# Altium footprint library Transistors_imp.PCBLIB: 16 footprints
Each footprint in its own frame and in the unit in brackets; x right, y up, seen from the top. Pads: shape width x height; smd on the part's side, far side on the other; paste and mask are expansions set on the pad; w line width, h text height; cw(c..) or ccw(c..) is an arc to the next point about the centre after c.
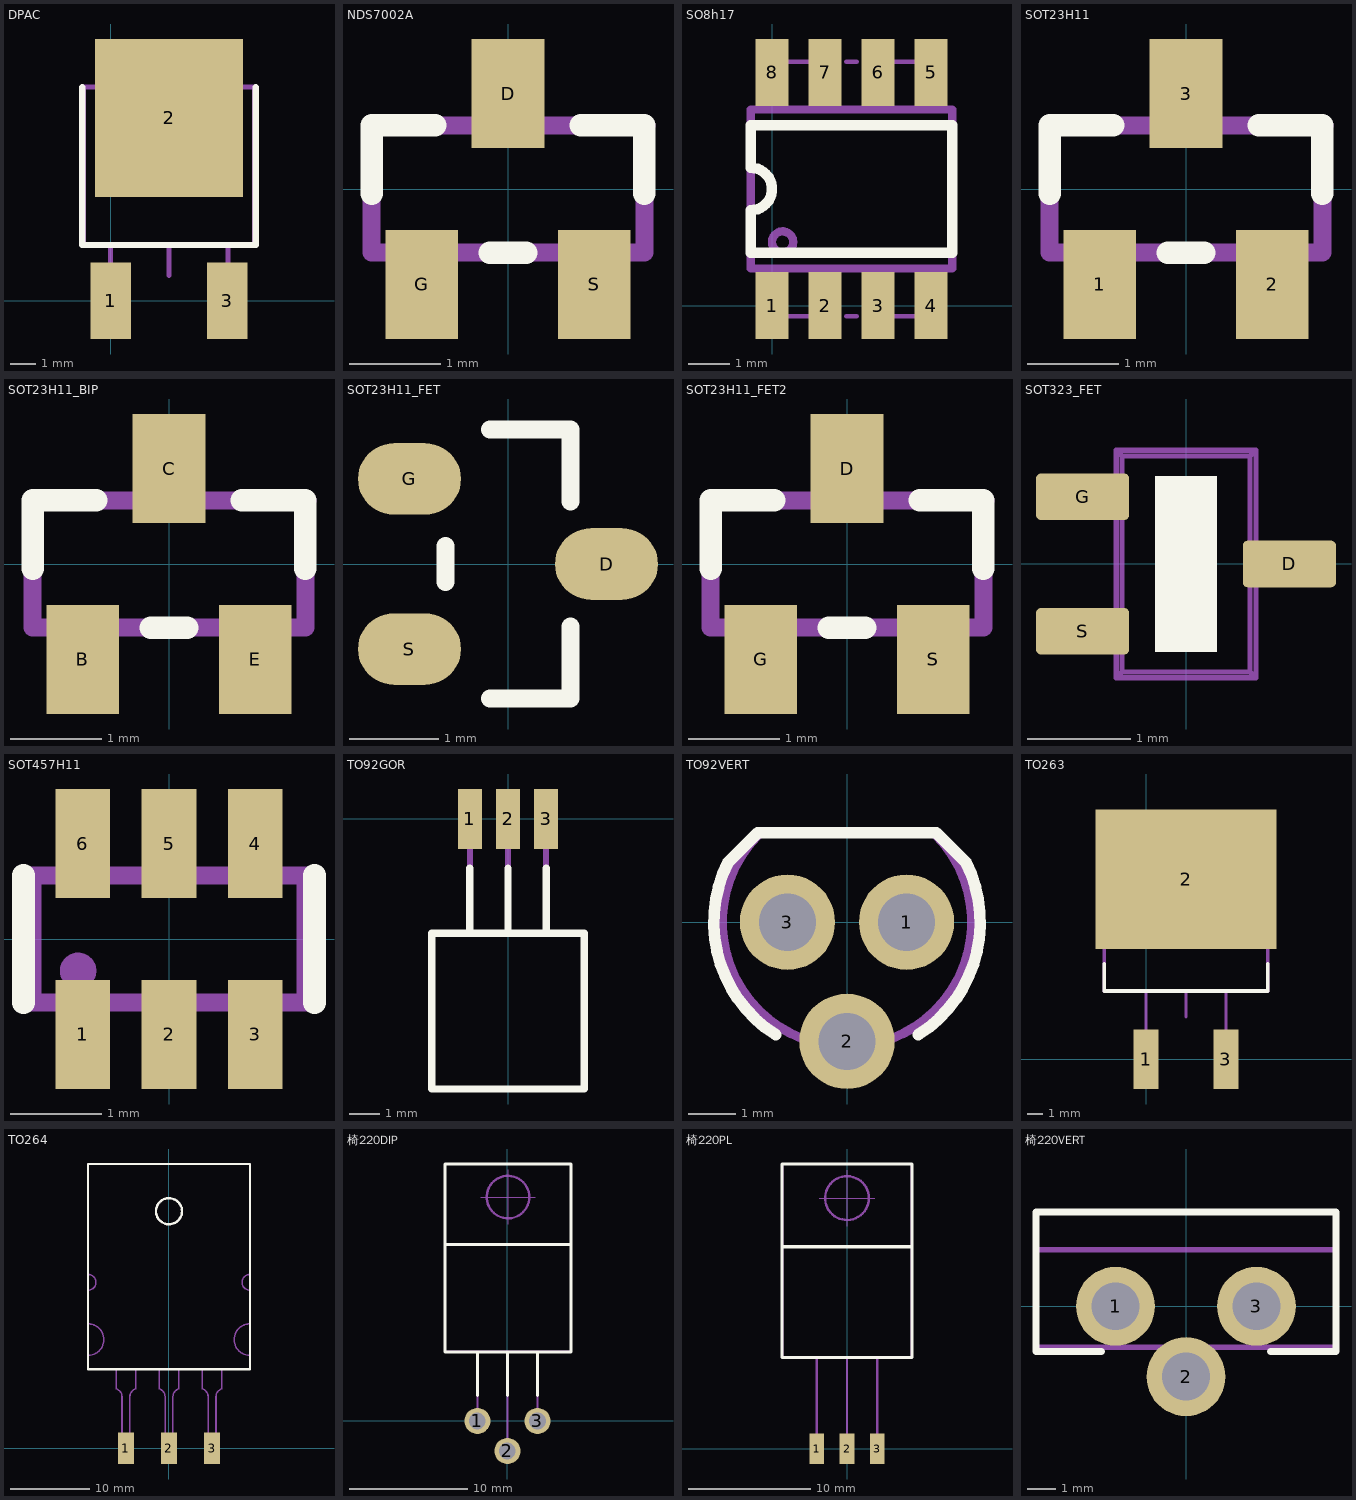
[diagram p0: the footprints below, top view; thin cyan lines are the x and y axes]

## DPAC [mm]
height 2.38
pads (3):
  rect 1.6x3 smd: 1(0,0) 3(4.58,0)
  rect 5.8x6.2 smd: 2(2.29,7.18)
Top Overlay:
  lines w0.25: -1.11,8.39 -1.11,2.19 5.69,2.19 5.69,8.39
Mechanical 1:
  lines w0.2: -0.41,8.4 -0.41,9.69 4.99,9.69 4.99,8.4 ; 0,-1 0,2.2 4.6,2.2 4.6,-1 ; 2.29,0.99 2.29,2.2 ; -1.06,2.2 -1.06,8.4 5.64,8.4 5.64,2.2 -1.06,2.2
  text "3" at 4.29,2.69 h1.5
  text "1" at -0.21,2.69 h1.5
  text "2" at 1.99,2.69 h1.5
  text ".Designator" at 0.749,5.949 h1.5
3D body "DPAC.stp": height 2.38, standoff 0, extent -1.1,-0.7 5.63,9.68

## NDS7002A [mm]
height 1.1
pads (3):
  rect 0.8x1.2 smd: D(0,1.05) G(-0.95,-1.05) S(0.95,-1.05)
Top Overlay:
  lines w0.25: -1.5,-0.05 -1.5,0.7 -0.8,0.7 ; -0.2,-0.7 0.2,-0.7 ; 0.8,0.7 1.5,0.7 1.5,-0.05
Mechanical 1:
  lines w0.2: -0.95,-1.3 -0.95,-0.7 ; 0.02,0.7 0.02,1.3 ; 0.95,-1.3 0.95,-0.7 ; 1.5,0.7 1.5,-0.7 -1.5,-0.7 -1.5,0.7 1.52,0.7
  text "S" at 1.75,-1.75 h1.5
  text "G" at -2.5,-1.75 h1.5
  text "D" at -1.5,1 h1.5
  text ".Designator" at -0.448,2.278 h1.5
3D body "SOT23h11.stp": height 1.1, standoff 0, extent -1.48,-1.25 1.52,1.25

## SO8h17 [mm]
height 1.7
pads (8):
  rect 0.8x1.6 smd: 1(0,0) 2(1.27,0) 3(2.54,0) 4(3.81,0) 5(3.81,5.588) 6(2.54,5.588) 7(1.27,5.588) 8(0,5.588)
Top Overlay:
  lines w0.25: -0.508,1.27 -0.508,2.286 ccw(c-0.508,2.794) -0.508,3.302 -0.508,4.318 4.318,4.318 4.318,1.27 -0.508,1.27
Mechanical 1:
  circle w0.2: c0.254,1.524 r0.254
  lines w0.1: 0,-0.254 1.27,-0.254 ; 0,5.842 1.27,5.842 ; 1.778,-0.254 2.032,-0.254 ; 1.778,5.842 2.032,5.842 ; 2.54,-0.254 3.81,-0.254 ; 2.54,5.842 3.81,5.842
  lines w0.2: 0,-0.254 0,0.762 ; 0,4.826 0,5.842 ; 3.81,-0.254 3.81,0.762 ; 3.81,4.826 3.81,5.842 ; -0.508,0.889 -0.508,4.699 4.318,4.699 4.318,0.889 -0.508,0.889
  text ".Comment" at -0.843,-2.015 h1.5
  text ".Designator" at 1.003,3.155 h1.5
  text "8" at 0.15,3.45 h1.5
3D body "SO8h17.stp": height 1.71, standoff 0, extent -0.6,-0.35 4.4,5.95

## SOT23H11 [mm]
height 1.1
pads (3):
  rect 0.8x1.2 smd: 1(-0.95,-1.05) 2(0.95,-1.05) 3(0,1.05)
Top Overlay:
  lines w0.25: -1.5,-0.05 -1.5,0.7 -0.8,0.7 ; -0.2,-0.7 0.2,-0.7 ; 0.8,0.7 1.5,0.7 1.5,-0.05
Mechanical 1:
  lines w0.2: -0.95,-1.3 -0.95,-0.7 ; 0.02,0.7 0.02,1.3 ; 0.95,-1.3 0.95,-0.7 ; 1.5,0.7 1.5,-0.7 -1.5,-0.7 -1.5,0.7 1.52,0.7
  text ".Designator" at -0.448,2.278 h1.5
  text "3" at -1.2,1 h1.5
  text "1" at -2.1,-1.6 h1.5
  text "2" at 1.7,-1.5 h1.5
3D body "SOT23h11.stp": height 1.1, standoff 0, extent -1.5,-1.25 1.5,1.25

## SOT23H11_BIP [mm]
height 1.1
pads (3):
  rect 0.8x1.2 smd: B(-0.95,-1.05) C(0,1.05) E(0.95,-1.05)
Top Overlay:
  lines w0.25: -1.5,-0.05 -1.5,0.7 -0.8,0.7 ; -0.2,-0.7 0.2,-0.7 ; 0.8,0.7 1.5,0.7 1.5,-0.05
Mechanical 1:
  lines w0.2: -0.95,-1.3 -0.95,-0.7 ; 0.02,0.7 0.02,1.3 ; 0.95,-1.3 0.95,-0.7 ; 1.5,0.7 1.5,-0.7 -1.5,-0.7 -1.5,0.7 1.52,0.7
  text ".Designator" at -0.448,2.278 h1.5
  text "3" at -1.2,1 h1.5
  text "1" at -2.1,-1.6 h1.5
  text "2" at 1.7,-1.5 h1.5
3D body "SOT23h11.stp": height 1.1, standoff 0, extent -1.5,-1.25 1.5,1.25

## SOT23H11_FET [mm]
pads (3):
  oval 1.15x0.8 smd mask+0.1: D(1.1,0) G(-1.1,0.95) S(-1.1,-0.95)
Top Overlay:
  lines w0.2: -0.7,-0.2 -0.7,0.2 ; -0.2,-1.5 0.7,-1.5 0.7,-0.7 ; -0.2,1.5 0.7,1.5 0.7,0.7
3D body "User Library-sot23-1.step": height 1, standoff 0, extent -1.163,-1.46 1.177,1.46

## SOT23H11_FET2 [mm]
height 1.1
pads (3):
  rect 0.8x1.2 smd: D(0,1.05) G(-0.95,-1.05) S(0.95,-1.05)
Top Overlay:
  lines w0.25: -1.5,-0.05 -1.5,0.7 -0.8,0.7 ; -0.2,-0.7 0.2,-0.7 ; 0.8,0.7 1.5,0.7 1.5,-0.05
Mechanical 1:
  lines w0.2: -0.95,-1.3 -0.95,-0.7 ; 0.02,0.7 0.02,1.3 ; 0.95,-1.3 0.95,-0.7 ; 1.5,0.7 1.5,-0.7 -1.5,-0.7 -1.5,0.7 1.52,0.7
  text "2" at 1.7,-1.5 h1.5
  text "1" at -2.1,-1.6 h1.5
  text "3" at -1.2,1 h1.5
  text ".Designator" at -0.448,2.278 h1.5
3D body "SOT23h11.stp": height 1.1, standoff 0, extent -1.5,-1.25 1.5,1.25

## SOT323_FET [mm] "Small outline 2.1mm L x 1.25mm W x 1.1mm H; 3 lead SC70, EIAJ SC-70, SOT323"
height 1.1
pads (3):
  rrect20% 0.9x0.45 smd: D(1,0) G(-1,0.65) S(-1,-0.65)
Top Overlay:
  rectangle: -0.3,-0.85 0.3,0.85
Mechanical 13:
  lines w0.05: -1.028,-0.8 -1.028,-0.5 ; -1.028,0.5 -1.028,0.8 ; -0.937,-0.8 -0.937,-0.5 ; -0.937,0.5 -0.937,0.8 ; -0.925,-0.8 -0.925,-0.5 ; -0.925,0.5 -0.925,0.8 ; 0.925,-0.15 0.925,0.15 ; 0.937,-0.15 0.937,0.15 ; 1.028,-0.15 1.028,0.15 ; -0.675,-1.1 0.675,-1.1 ; -0.675,-1.1 -0.675,1.1 ; -0.675,-1.1 -0.619,-1.044 ; -0.675,1.1 0.675,1.1 ; -0.675,1.1 -0.619,1.043 ; -0.619,-1.044 0.619,-1.044 ; -0.619,-1.044 -0.619,1.043 ; -0.619,1.043 0.619,1.043 ; 0.619,-1.044 0.675,-1.1 ; 0.619,-1.044 0.619,1.043 ; 0.619,1.043 0.675,1.1 ; 0.675,-1.1 0.675,1.1 ; -1.2,-0.8 -1.2,-0.5 -0.654,-0.5 -0.654,-0.8 -1.2,-0.8 ; -1.2,0.5 -1.2,0.8 -0.654,0.8 -0.654,0.5 -1.2,0.5 ; 0.654,-0.15 1.2,-0.15 1.2,0.15 0.654,0.15 0.654,-0.15
3D body "SOT323.STEP": height 1.1, standoff 0, extent -1.2,-1.1 1.2,1.1

## SOT457H11 [mm]
height 1.1
pads (6):
  rect 0.6x1.2 smd: 1(-0.95,-1.05) 2(0,-1.05) 3(0.95,-1.05) 4(0.95,1.05) 5(0,1.05) 6(-0.95,1.05)
Top Overlay:
  lines w0.25: -1.6,-0.7 -1.6,0.7 ; 1.6,-0.7 1.6,0.7
Mechanical 1:
  circle w0.2: c-1,-0.35 r0.1
  lines w0.2: -0.95,-1.3 -0.95,-0.7 ; -0.95,0.7 -0.95,1.3 ; 0,-1.3 0,-0.7 ; 0.02,0.7 0.02,1.3 ; 0.95,-1.3 0.95,-0.7 ; 0.95,0.7 0.95,1.3 ; 1.5,0.7 1.5,-0.7 -1.5,-0.7 -1.5,0.7 1.52,0.7
  text "6" at -2.1,1 h1.5
  text ".Designator" at -1.21,1.77 h1.5
3D body "SOT457h11.stp": height 1.1, standoff 0, extent -1.5,-1.25 1.5,1.25

## TO92GOR [mm]
height 5.2
pads (3):
  rect 0.8x2 smd: 1(-1.27,0) 2(0,0) 3(1.27,0)
Top Overlay:
  lines w0.25: -1.27,-3.81 -1.27,-1.651 ; 0,-3.81 0,-1.651 ; 1.27,-3.81 1.27,-1.651 ; -2.54,-9.017 -2.54,-8.763 -2.54,-3.81 2.54,-3.81 2.54,-9.017 -2.54,-9.017
Mechanical 1:
  lines w0.2: -1.27,-3.81 -1.27,0.381 ; 0,-3.81 0,0.381 ; 1.27,-3.81 1.27,0.381 ; -2.54,-9.017 -2.54,-3.81 2.54,-3.81 2.54,-9.017 -2.54,-9.017
  text "3" at 1.039,-5.186 h1.5
  text "2" at -0.381,-5.207 h1.5
  text "1" at -1.628,-5.186 h1.5
  text ".Comment" at -2.794,-10.287 h1.5
  text ".Designator" at -1.143,-7.366 h1.5
3D body "TO92GOR.stp": height 4.18, standoff 0, extent -2.58,-9.01 2.58,0.5

## TO92VERT [mil]
height 342.52
pads (3):
  round 80 hole 48: 1(50,0) 2(0,-100) 3(-50,0)
Top Overlay:
  lines w9.84: -100,50 -75,75 75,75 100,50 ; -99.97,50.06 ccw(c0,0) -59.74,-94.5 ; 59.74,-94.5 ccw(c0,0) 99.97,50.06
Mechanical 1:
  lines w7.87: -75,75 75,75 ; -74,74 ccw(c0,0) 74,74
  text ".Designator" at -49.61,95.28 h59.06
  text "3" at -78.65,-24.48 h83.33
  text "1" at 21.35,-24.48 h83.33
  text "2" at -28.65,-114.48 h83.33
3D body "TO92VERT.stp": height 342.52, standoff -118.11, extent -101.56,-109.82 101.56,62.99

## TO263 [mm]
height 4.57
pads (3):
  rect 1.6x3.8 smd: 1(0,0) 3(5.08,0)
  rect 11.5x8.9 smd: 2(2.54,11.45)
Top Overlay:
  lines w0.25: -2.667,6.05 -2.667,4.351 7.747,4.351 7.747,6.05
Mechanical 1:
  lines w0.2: -2.667,4.3 -2.667,13.8 ; -2.61,4.3 7.69,4.3 ; -2.286,14.765 cw(c-1.956,14.765) -1.956,15.095 7.036,15.095 cw(c7.036,14.765) 7.366,14.765 ; -2.286,14.816 -2.667,13.8 ; 0,-0.635 0,4.3 ; 2.54,2.7 2.54,4.3 ; 5.08,-0.635 5.08,4.3 ; 7.366,14.841 7.747,13.8 ; 7.747,4.3 7.747,13.8 ; -2.667,13.8 7.747,13.8
  text ".Designator" at -0.267,8.743 h1.5
  text "G" at -0.46,5.05 h1.5
  text "S" at 4.84,5.05 h1.5
  text "D" at 2.04,10.15 h1.5
3D body "TO263.stp": height 4.57, standoff 0, extent -2.575,-0.5 7.705,15.24

## TO264 [mm]
height 5.1
pads (3):
  rect 2x4 smd: 1(-5.45,0) 2(0,0) 3(5.45,0)
Top Overlay:
  circle w0.3: c0,30 r1.65
  lines w0.3: -10.25,10 -10.25,11.746 -10.25,15.746 -10.25,20 -10.25,22 -10.25,35.958 ; -10.229,35.979 10.229,35.979 ; -10.166,10 10.166,10 ; 10.25,10 10.25,11.746 10.25,15.746 10.25,20 10.25,22 10.25,35.958
Mechanical 1:
  circle w0.2: c0,30 r1.65
  lines w0.2: -6.7,10 -6.7,7.5 cw(c-6.95,6.532) -5.95,6.532 -5.95,-1 -4.95,-1 -4.95,6.532 cw(c-3.95,6.532) -4.2,7.5 -4.2,10 ; -1.25,10 -1.25,7.5 cw(c-1.5,6.532) -0.5,6.532 -0.5,-1 0.5,-1 0.5,6.532 cw(c1.5,6.532) 1.25,7.5 1.25,10 ; 4.2,10 4.2,7.5 cw(c3.95,6.532) 4.95,6.532 4.95,-1 5.95,-1 5.95,6.532 cw(c6.95,6.532) 6.7,7.5 6.7,10 ; 10.229,35.979 -10.229,35.979 -10.25,35.958 -10.25,22 ; 10.25,35.958 10.25,22 ; -10.25,11.746 ccw(c-10.25,13.746) -9.956,11.767 ccw(c-10.25,13.746) -9.956,15.724 ccw(c-10.25,13.746) -10.25,15.746 ; -10.25,11.746 -10.25,15.746 ; -10.25,11.746 -10.25,10 -10.166,10 10.166,10 10.25,10 10.25,11.746 ; -10.25,15.746 -10.25,20 ; -10.25,20 ccw(c-10.25,21) -9.956,20.044 ccw(c-10.25,21) -9.956,21.956 ccw(c-10.25,21) -10.25,22 ; -10.25,20 -10.25,22 ; 10.25,11.746 cw(c10.25,13.746) 9.956,11.767 cw(c10.25,13.746) 9.956,15.724 cw(c10.25,13.746) 10.25,15.746 ; 10.25,11.746 10.25,15.746 ; 10.25,15.746 10.25,20 ; 10.25,20 cw(c10.25,21) 9.956,20.044 cw(c10.25,21) 9.956,21.956 cw(c10.25,21) 10.25,22 ; 10.25,20 10.25,22
  text ".Designator" at -0.398,17.278 h1.5
  text ".Comment" at -1.988,15.578 h1.5
  text "G" at -6,11 h1.5
  text "D" at 0,11 h1.5
  text "S" at 5,11 h1.5
3D body "TO264.STEP": height 5.2, standoff 0, extent -10.25,-1 10.25,35.979

## 椅220DIP [mm]
height 4.8
pads (3):
  round 2.2 hole 1.4: 1(-2.54,0) 2(0,-2.54) 3(2.54,0)
Top Overlay:
  lines w0.25: -5.28,14.942 5.37,14.942 ; -2.54,2.159 -2.54,5.842 ; 0,2.159 0,5.842 ; 2.54,2.159 2.54,5.842 ; -5.28,5.842 5.37,5.842 5.37,21.742 -5.28,21.742 -5.28,5.842
Mechanical 1:
  circle w0.2: c0.045,18.942 r1.8
  lines w0.1: -2.255,18.942 2.345,18.942 ; 0.045,16.642 0.045,21.242
  lines w0.2: -5.28,14.942 5.37,14.942 ; -2.54,0 -2.54,5.842 ; 0,-2.54 0,5.842 ; 2.54,0 2.54,5.842 ; -5.28,5.842 5.37,5.842 5.37,21.742 -5.28,21.742 -5.28,5.842
  text ".Designator" at -1.635,11.672 h1.5
  text "1" at -3.59,6.59 h1.5
  text "3" at 2.892,6.59 h1.5
  text "2" at -0.415,6.59 h1.5
3D body "椅220DIP.STEP": height 4.8, standoff -3, extent -5.325,-2.98 5.325,21.742

## 椅220PL [mm]
height 4.8
pads (3):
  rect 1.2x2.5 smd: 1(-2.5,0) 2(0,0) 3(2.5,0)
Top Overlay:
  lines w0.25: -5.325,16.6 5.325,16.6 ; -5.325,7.5 -5.325,23.4 5.325,23.4 5.325,7.5 -5.325,7.5
Mechanical 1:
  circle w0.2: c0,20.6 r1.8
  lines w0.1: -2.3,20.6 2.3,20.6 ; 0,18.3 0,22.9
  lines w0.2: -5.325,16.6 5.325,16.6 ; -2.5,-0.5 -2.5,7.5 ; 0,-0.5 0,7.5 ; 2.5,-0.5 2.5,7.5 ; -5.325,7.5 -5.325,23.4 5.325,23.4 5.325,7.5 -5.325,7.5
  text "2" at -0.46,8.248 h1.5
  text "3" at 2.847,8.248 h1.5
  text "1" at -3.635,8.248 h1.5
  text ".Designator" at -1.68,13.33 h1.5
3D body "椅220PL.STEP": height 4.8, standoff 0, extent -5.325,-0.52 5.325,23.38

## 椅220VERT [mm]
height 21
pads (3):
  round 2.8 hole 1.7: 1(-2.5,0) 2(0,-2.5) 3(2.5,0)
Top Overlay:
  lines w0.25: -3,-1.6 -5.325,-1.6 -5.325,3.35 5.325,3.35 5.325,-1.6 3,-1.6
Mechanical 1:
  lines w0.2: -5.325,2 5.325,2 ; 0,-2.5 0,-1.45 ; -5.325,-1.45 5.325,-1.45 5.325,3.35 -5.325,3.35 -5.325,-1.45
  text ".Designator" at -1.38,4.05 h1.5
  text "1" at -4.27,-0.017 h1.5
  text "3" at 3.482,-0.017 h1.5
  text "2" at -0.46,-0.682 h1.5